# EAGLE library part XCV812E_FG900 (library xilinx-xcv)
xcv812e_fg900 edit this description Auto generated by make-symbol-device-package-bsdl.ulp Rev. 26 Source: xcv812e_fg900.bsd
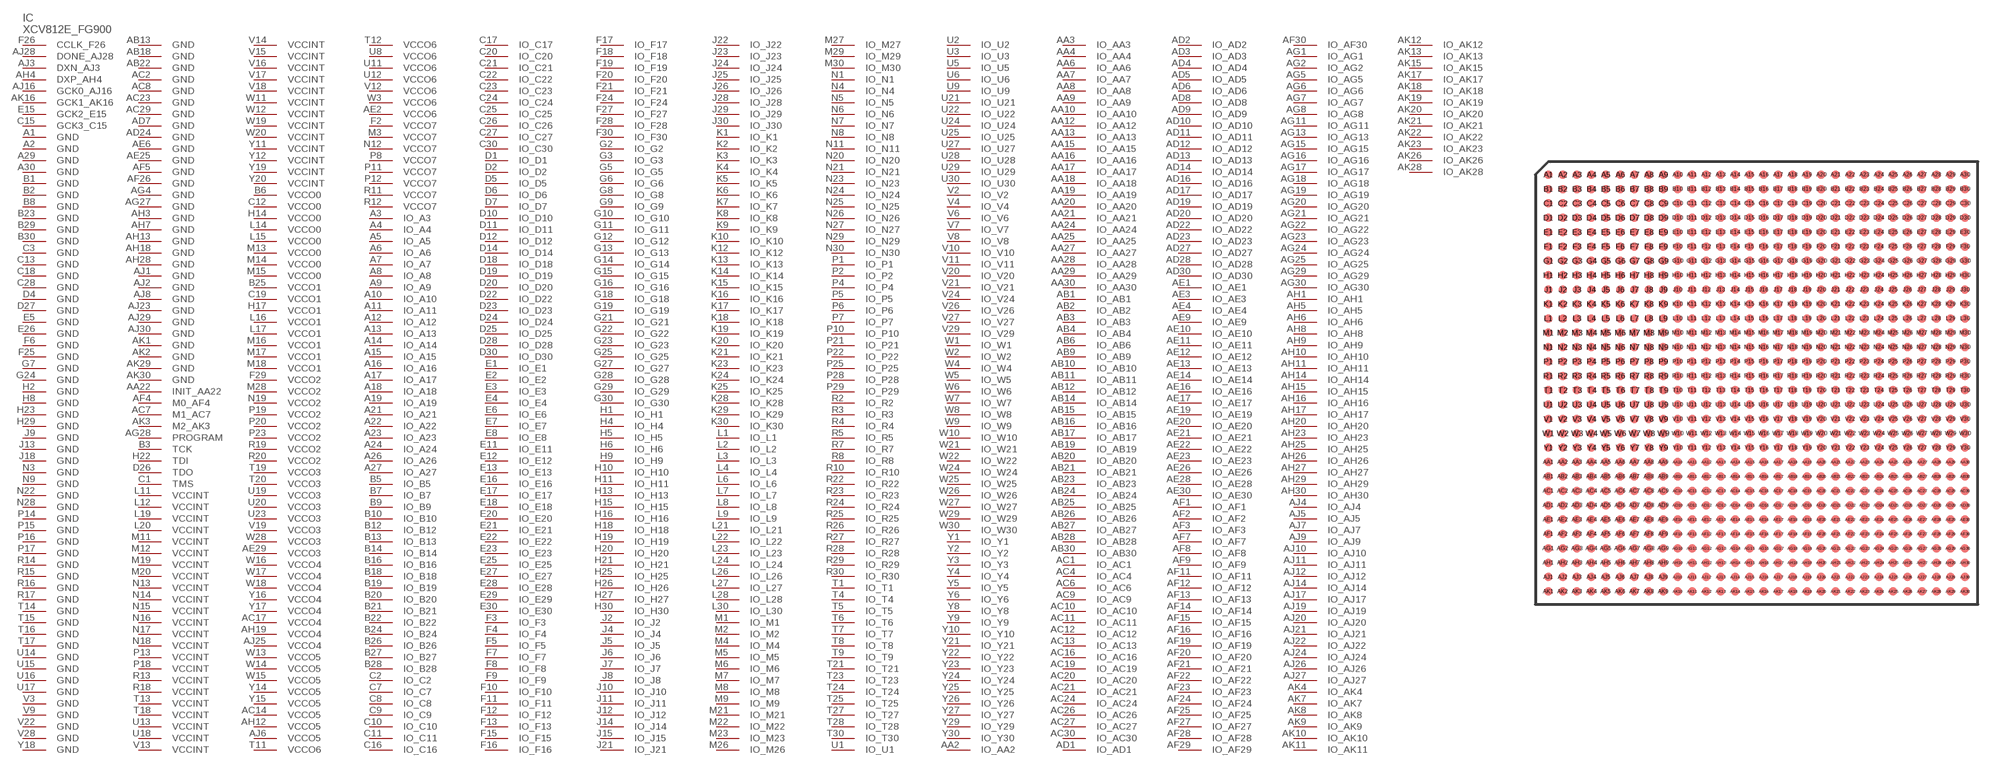
[diagram p138: symbol with the pads of FG900; footprint FG900]

Designator prefix IC

## XCV812E_FG900 (OC_FARNELL: unknown; OC_NEWARK: unknown)  [FG900]
A1  GND  pwr
A2  GND  pwr
A3  IO_A3
A4  IO_A4
A5  IO_A5
A6  IO_A6
A7  IO_A7
A8  IO_A8
A9  IO_A9
A10  IO_A10
A11  IO_A11
A12  IO_A12
A13  IO_A13
A14  IO_A14
A15  IO_A15
A16  IO_A16
A17  IO_A17
A18  IO_A18
A19  IO_A19
A21  IO_A21
A22  IO_A22
A23  IO_A23
A24  IO_A24
A26  IO_A26
A27  IO_A27
A29  GND  pwr
A30  GND  pwr
AA2  IO_AA2
AA3  IO_AA3
AA4  IO_AA4
AA6  IO_AA6
AA7  IO_AA7
AA8  IO_AA8
AA9  IO_AA9
AA10  IO_AA10
AA12  IO_AA12
AA13  IO_AA13
AA15  IO_AA15
AA16  IO_AA16
AA17  IO_AA17
AA18  IO_AA18
AA19  IO_AA19
AA20  IO_AA20
AA21  IO_AA21
AA22  INIT_AA22
AA24  IO_AA24
AA25  IO_AA25
AA27  IO_AA27
AA28  IO_AA28
AA29  IO_AA29
AA30  IO_AA30
AB1  IO_AB1
AB2  IO_AB2
AB3  IO_AB3
AB4  IO_AB4
AB6  IO_AB6
AB9  IO_AB9
AB10  IO_AB10
AB11  IO_AB11
AB12  IO_AB12
AB13  GND  pwr
AB14  IO_AB14
AB15  IO_AB15
AB16  IO_AB16
AB17  IO_AB17
AB18  GND  pwr
AB19  IO_AB19
AB20  IO_AB20
AB21  IO_AB21
AB22  GND  pwr
AB23  IO_AB23
AB24  IO_AB24
AB25  IO_AB25
AB26  IO_AB26
AB27  IO_AB27
AB28  IO_AB28
AB30  IO_AB30
AC1  IO_AC1
AC2  GND  pwr
AC4  IO_AC4
AC6  IO_AC6
AC7  M1_AC7  in
AC8  GND  pwr
AC9  IO_AC9
AC10  IO_AC10
AC11  IO_AC11
AC12  IO_AC12
AC13  IO_AC13
AC14  VCCO5  pwr
AC16  IO_AC16
AC17  VCCO4  pwr
AC19  IO_AC19
AC20  IO_AC20
AC21  IO_AC21
AC23  GND  pwr
AC24  IO_AC24
AC26  IO_AC26
AC27  IO_AC27
AC29  GND  pwr
AC30  IO_AC30
AD1  IO_AD1
AD2  IO_AD2
AD3  IO_AD3
AD4  IO_AD4
AD5  IO_AD5
AD6  IO_AD6
AD7  GND  pwr
AD8  IO_AD8
AD9  IO_AD9
AD10  IO_AD10
AD11  IO_AD11
AD12  IO_AD12
AD13  IO_AD13
AD14  IO_AD14
AD16  IO_AD16
AD17  IO_AD17
AD19  IO_AD19
AD20  IO_AD20
AD22  IO_AD22
AD23  IO_AD23
AD24  GND  pwr
AD27  IO_AD27
AD28  IO_AD28
AD30  IO_AD30
AE1  IO_AE1
AE2  VCCO6  pwr
AE3  IO_AE3
AE4  IO_AE4
AE6  GND  pwr
AE9  IO_AE9
AE10  IO_AE10
AE11  IO_AE11
AE12  IO_AE12
AE13  IO_AE13
AE14  IO_AE14
AE16  IO_AE16
AE17  IO_AE17
AE19  IO_AE19
AE20  IO_AE20
AE21  IO_AE21
AE22  IO_AE22
AE23  IO_AE23
AE25  GND  pwr
AE26  IO_AE26
AE28  IO_AE28
AE29  VCCO3  pwr
AE30  IO_AE30
AF1  IO_AF1
AF2  IO_AF2
AF3  IO_AF3
AF4  M0_AF4  in
AF5  GND  pwr
AF7  IO_AF7
AF8  IO_AF8
AF9  IO_AF9
AF11  IO_AF11
AF12  IO_AF12
AF13  IO_AF13
AF14  IO_AF14
AF15  IO_AF15
AF16  IO_AF16
AF19  IO_AF19
AF20  IO_AF20
AF21  IO_AF21
AF22  IO_AF22
AF23  IO_AF23
AF24  IO_AF24
AF25  IO_AF25
AF26  GND  pwr
AF27  IO_AF27
AF28  IO_AF28
AF29  IO_AF29
AF30  IO_AF30
AG1  IO_AG1
AG2  IO_AG2
AG4  GND  pwr
AG5  IO_AG5
AG6  IO_AG6
AG7  IO_AG7
AG8  IO_AG8
AG11  IO_AG11
AG13  IO_AG13
AG15  IO_AG15
AG16  IO_AG16
AG17  IO_AG17
AG18  IO_AG18
AG19  IO_AG19
AG20  IO_AG20
AG21  IO_AG21
AG22  IO_AG22
AG23  IO_AG23
AG24  IO_AG24
AG25  IO_AG25
AG27  GND  pwr
AG28  PROGRAM  in
AG29  IO_AG29
AG30  IO_AG30
AH1  IO_AH1
AH3  GND  pwr
AH4  DXP_AH4  pas
AH5  IO_AH5
AH6  IO_AH6
AH7  GND  pwr
AH8  IO_AH8
AH9  IO_AH9
AH10  IO_AH10
AH11  IO_AH11
AH12  VCCO5  pwr
AH13  GND  pwr
AH14  IO_AH14
AH15  IO_AH15
AH16  IO_AH16
AH17  IO_AH17
AH18  GND  pwr
AH19  VCCO4  pwr
AH20  IO_AH20
AH23  IO_AH23
AH25  IO_AH25
AH26  IO_AH26
AH27  IO_AH27
AH28  GND  pwr
AH29  IO_AH29
AH30  IO_AH30
AJ1  GND  pwr
AJ2  GND  pwr
AJ3  DXN_AJ3  pas
AJ4  IO_AJ4
AJ5  IO_AJ5
AJ6  VCCO5  pwr
AJ7  IO_AJ7
AJ8  GND  pwr
AJ9  IO_AJ9
AJ10  IO_AJ10
AJ11  IO_AJ11
AJ12  IO_AJ12
AJ14  IO_AJ14
AJ16  GCK0_AJ16  in
AJ17  IO_AJ17
AJ19  IO_AJ19
AJ20  IO_AJ20
AJ21  IO_AJ21
AJ22  IO_AJ22
AJ23  GND  pwr
AJ24  IO_AJ24
AJ25  VCCO4  pwr
AJ26  IO_AJ26
AJ27  IO_AJ27
AJ28  DONE_AJ28
AJ29  GND  pwr
AJ30  GND  pwr
AK1  GND  pwr
AK2  GND  pwr
AK3  M2_AK3  in
AK4  IO_AK4
AK7  IO_AK7
AK8  IO_AK8
AK9  IO_AK9
AK10  IO_AK10
AK11  IO_AK11
AK12  IO_AK12
AK13  IO_AK13
AK15  IO_AK15
AK16  GCK1_AK16  in
AK17  IO_AK17
AK18  IO_AK18
AK19  IO_AK19
AK20  IO_AK20
AK21  IO_AK21
AK22  IO_AK22
AK23  IO_AK23
AK26  IO_AK26
AK28  IO_AK28
AK29  GND  pwr
AK30  GND  pwr
B1  GND  pwr
B2  GND  pwr
B3  TCK  in
B5  IO_B5
B6  VCCO0  pwr
B7  IO_B7
B8  GND  pwr
B9  IO_B9
B10  IO_B10
B12  IO_B12
B13  IO_B13
B14  IO_B14
B16  IO_B16
B18  IO_B18
B19  IO_B19
B20  IO_B20
B21  IO_B21
B22  IO_B22
B23  GND  pwr
B24  IO_B24
B25  VCCO1  pwr
B26  IO_B26
B27  IO_B27
B28  IO_B28
B29  GND  pwr
B30  GND  pwr
C1  TMS  in
C2  IO_C2
C3  GND  pwr
C7  IO_C7
C8  IO_C8
C9  IO_C9
C10  IO_C10
C11  IO_C11
C12  VCCO0  pwr
C13  GND  pwr
C15  GCK3_C15  in
C16  IO_C16
C17  IO_C17
C18  GND  pwr
C19  VCCO1  pwr
C20  IO_C20
C21  IO_C21
C22  IO_C22
C23  IO_C23
C24  IO_C24
C25  IO_C25
C26  IO_C26
C27  IO_C27
C28  GND  pwr
C30  IO_C30
D1  IO_D1
D2  IO_D2
D4  GND  pwr
D5  IO_D5
D6  IO_D6
D7  IO_D7
D10  IO_D10
D11  IO_D11
D12  IO_D12
D14  IO_D14
D18  IO_D18
D19  IO_D19
D20  IO_D20
D22  IO_D22
D23  IO_D23
D24  IO_D24
D25  IO_D25
D26  TDO  out
D27  GND  pwr
D28  IO_D28
D30  IO_D30
E1  IO_E1
E2  IO_E2
E3  IO_E3
E4  IO_E4
E5  GND  pwr
E6  IO_E6
E7  IO_E7
E8  IO_E8
E11  IO_E11
E12  IO_E12
E13  IO_E13
E15  GCK2_E15  in
E16  IO_E16
E17  IO_E17
E18  IO_E18
E20  IO_E20
E21  IO_E21
E22  IO_E22
E23  IO_E23
E25  IO_E25
E26  GND  pwr
E27  IO_E27
E28  IO_E28
E29  IO_E29
E30  IO_E30
F2  VCCO7  pwr
F3  IO_F3
F4  IO_F4
F5  IO_F5
F6  GND  pwr
F7  IO_F7
F8  IO_F8
F9  IO_F9
F10  IO_F10
F11  IO_F11
F12  IO_F12
F13  IO_F13
F15  IO_F15
F16  IO_F16
F17  IO_F17
F18  IO_F18
F19  IO_F19
F20  IO_F20
F21  IO_F21
F24  IO_F24
F25  GND  pwr
F26  CCLK_F26
F27  IO_F27
F28  IO_F28
F29  VCCO2  pwr
F30  IO_F30
G2  IO_G2
G3  IO_G3
G5  IO_G5
G6  IO_G6
G7  GND  pwr
G8  IO_G8
G9  IO_G9
G10  IO_G10
G11  IO_G11
G12  IO_G12
G13  IO_G13
G14  IO_G14
G15  IO_G15
G16  IO_G16
G18  IO_G18
G19  IO_G19
G21  IO_G21
G22  IO_G22
G23  IO_G23
G24  GND  pwr
G25  IO_G25
G27  IO_G27
G28  IO_G28
G29  IO_G29
G30  IO_G30
H1  IO_H1
H2  GND  pwr
H4  IO_H4
H5  IO_H5
H6  IO_H6
H8  GND  pwr
H9  IO_H9
H10  IO_H10
H11  IO_H11
H13  IO_H13
H14  VCCO0  pwr
H15  IO_H15
H16  IO_H16
H17  VCCO1  pwr
H18  IO_H18
H19  IO_H19
H20  IO_H20
H21  IO_H21
H22  TDI  in
H23  GND  pwr
H25  IO_H25
H26  IO_H26
H27  IO_H27
H29  GND  pwr
H30  IO_H30
J2  IO_J2
J4  IO_J4
J5  IO_J5
J6  IO_J6
J7  IO_J7
J8  IO_J8
J9  GND  pwr
J10  IO_J10
J11  IO_J11
J12  IO_J12
J13  GND  pwr
J14  IO_J14
J15  IO_J15
J18  GND  pwr
J21  IO_J21
J22  IO_J22
J23  IO_J23
J24  IO_J24
J25  IO_J25
J26  IO_J26
J28  IO_J28
J29  IO_J29
J30  IO_J30
K1  IO_K1
K2  IO_K2
K3  IO_K3
K4  IO_K4
K5  IO_K5
K6  IO_K6
K7  IO_K7
K8  IO_K8
K9  IO_K9
K10  IO_K10
K12  IO_K12
K13  IO_K13
K14  IO_K14
K15  IO_K15
K16  IO_K16
K17  IO_K17
K18  IO_K18
K19  IO_K19
K20  IO_K20
K21  IO_K21
K23  IO_K23
K24  IO_K24
K25  IO_K25
K28  IO_K28
K29  IO_K29
K30  IO_K30
L1  IO_L1
L2  IO_L2
L3  IO_L3
L4  IO_L4
L6  IO_L6
L7  IO_L7
L8  IO_L8
L9  IO_L9
L11  VCCINT  pwr
L12  VCCINT  pwr
L14  VCCO0  pwr
L15  VCCO0  pwr
L16  VCCO1  pwr
L17  VCCO1  pwr
L19  VCCINT  pwr
L20  VCCINT  pwr
L21  IO_L21
L22  IO_L22
L23  IO_L23
L24  IO_L24
L26  IO_L26
L27  IO_L27
L28  IO_L28
L30  IO_L30
M1  IO_M1
M2  IO_M2
M3  VCCO7  pwr
M4  IO_M4
M5  IO_M5
M6  IO_M6
M7  IO_M7
M8  IO_M8
M9  IO_M9
M11  VCCINT  pwr
M12  VCCINT  pwr
M13  VCCO0  pwr
M14  VCCO0  pwr
M15  VCCO0  pwr
M16  VCCO1  pwr
M17  VCCO1  pwr
M18  VCCO1  pwr
M19  VCCINT  pwr
M20  VCCINT  pwr
M21  IO_M21
M22  IO_M22
M23  IO_M23
M26  IO_M26
M27  IO_M27
M28  VCCO2  pwr
M29  IO_M29
M30  IO_M30
N1  IO_N1
N3  GND  pwr
N4  IO_N4
N5  IO_N5
N6  IO_N6
N7  IO_N7
N8  IO_N8
N9  GND  pwr
N11  IO_N11
N12  VCCO7  pwr
N13  VCCINT  pwr
N14  VCCINT  pwr
N15  VCCINT  pwr
N16  VCCINT  pwr
N17  VCCINT  pwr
N18  VCCINT  pwr
N19  VCCO2  pwr
N20  IO_N20
N21  IO_N21
N22  GND  pwr
N23  IO_N23
N24  IO_N24
N25  IO_N25
N26  IO_N26
N27  IO_N27
N28  GND  pwr
N29  IO_N29
N30  IO_N30
P1  IO_P1
P2  IO_P2
P4  IO_P4
P5  IO_P5
P6  IO_P6
P7  IO_P7
P8  VCCO7  pwr
P10  IO_P10
P11  VCCO7  pwr
P12  VCCO7  pwr
P13  VCCINT  pwr
P14  GND  pwr
P15  GND  pwr
P16  GND  pwr
P17  GND  pwr
P18  VCCINT  pwr
P19  VCCO2  pwr
P20  VCCO2  pwr
P21  IO_P21
P22  IO_P22
P23  VCCO2  pwr
P25  IO_P25
P28  IO_P28
P29  IO_P29
R2  IO_R2
R3  IO_R3
R4  IO_R4
R5  IO_R5
R7  IO_R7
R8  IO_R8
R10  IO_R10
R11  VCCO7  pwr
R12  VCCO7  pwr
R13  VCCINT  pwr
R14  GND  pwr
R15  GND  pwr
R16  GND  pwr
R17  GND  pwr
R18  VCCINT  pwr
R19  VCCO2  pwr
R20  VCCO2  pwr
R22  IO_R22
R23  IO_R23
R24  IO_R24
R25  IO_R25
R26  IO_R26
R27  IO_R27
R28  IO_R28
R29  IO_R29
R30  IO_R30
T1  IO_T1
T4  IO_T4
T5  IO_T5
T6  IO_T6
T7  IO_T7
T8  IO_T8
T9  IO_T9
T11  VCCO6  pwr
T12  VCCO6  pwr
T13  VCCINT  pwr
T14  GND  pwr
T15  GND  pwr
T16  GND  pwr
T17  GND  pwr
T18  VCCINT  pwr
T19  VCCO3  pwr
T20  VCCO3  pwr
T21  IO_T21
T23  IO_T23
T24  IO_T24
T25  IO_T25
T27  IO_T27
T28  IO_T28
T30  IO_T30
U1  IO_U1
U2  IO_U2
U3  IO_U3
U5  IO_U5
U6  IO_U6
U8  VCCO6  pwr
U9  IO_U9
U11  VCCO6  pwr
U12  VCCO6  pwr
U13  VCCINT  pwr
U14  GND  pwr
U15  GND  pwr
U16  GND  pwr
U17  GND  pwr
U18  VCCINT  pwr
U19  VCCO3  pwr
U20  VCCO3  pwr
U21  IO_U21
U22  IO_U22
U23  VCCO3  pwr
U24  IO_U24
U25  IO_U25
U27  IO_U27
U28  IO_U28
U29  IO_U29
U30  IO_U30
V2  IO_V2
V3  GND  pwr
V4  IO_V4
V6  IO_V6
V7  IO_V7
V8  IO_V8
V9  GND  pwr
V10  IO_V10
V11  IO_V11
V12  VCCO6  pwr
V13  VCCINT  pwr
V14  VCCINT  pwr
V15  VCCINT  pwr
V16  VCCINT  pwr
V17  VCCINT  pwr
V18  VCCINT  pwr
V19  VCCO3  pwr
V20  IO_V20
V21  IO_V21
V22  GND  pwr
V24  IO_V24
V26  IO_V26
V27  IO_V27
V28  GND  pwr
V29  IO_V29
W1  IO_W1
W2  IO_W2
W3  VCCO6  pwr
W4  IO_W4
W5  IO_W5
W6  IO_W6
W7  IO_W7
W8  IO_W8
W9  IO_W9
W10  IO_W10
W11  VCCINT  pwr
W12  VCCINT  pwr
W13  VCCO5  pwr
W14  VCCO5  pwr
W15  VCCO5  pwr
W16  VCCO4  pwr
W17  VCCO4  pwr
W18  VCCO4  pwr
W19  VCCINT  pwr
W20  VCCINT  pwr
W21  IO_W21
W22  IO_W22
W24  IO_W24
W25  IO_W25
W26  IO_W26
W27  IO_W27
W28  VCCO3  pwr
W29  IO_W29
W30  IO_W30
Y1  IO_Y1
Y2  IO_Y2
Y3  IO_Y3
Y4  IO_Y4
Y5  IO_Y5
Y6  IO_Y6
Y8  IO_Y8
Y9  IO_Y9
Y10  IO_Y10
Y11  VCCINT  pwr
Y12  VCCINT  pwr
Y14  VCCO5  pwr
Y15  VCCO5  pwr
Y16  VCCO4  pwr
Y17  VCCO4  pwr
Y18  GND  pwr
Y19  VCCINT  pwr
Y20  VCCINT  pwr
Y21  IO_Y21
Y22  IO_Y22
Y23  IO_Y23
Y24  IO_Y24
Y25  IO_Y25
Y26  IO_Y26
Y27  IO_Y27
Y29  IO_Y29
Y30  IO_Y30

## Footprint FG900 (pad centres in mm)
xcv1000e_fg900_1532 edit this description Auto generated by make-symbol-device-package-bsdl.ulp Rev. 26 Source: xcv1000e_fg900_1532.bsd
smd 0.6 x 0.6: A1 -14.5,14.5; A2 -13.5,14.5; A3 -12.5,14.5; A4 -11.5,14.5; A5 -10.5,14.5; A6 -9.5,14.5; A7 -8.5,14.5; A8 -7.5,14.5; A9 -6.5,14.5; A10 -5.5,14.5; A11 -4.5,14.5; A12 -3.5,14.5; A13 -2.5,14.5; A14 -1.5,14.5; A15 -0.5,14.5; A16 0.5,14.5; A17 1.5,14.5; A18 2.5,14.5; A19 3.5,14.5; A20 4.5,14.5; A21 5.5,14.5; A22 6.5,14.5; A23 7.5,14.5; A24 8.5,14.5; A25 9.5,14.5; A26 10.5,14.5; A27 11.5,14.5; A28 12.5,14.5; A29 13.5,14.5; A30 14.5,14.5; AA1 -14.5,-5.5; AA2 -13.5,-5.5; AA3 -12.5,-5.5; AA4 -11.5,-5.5; AA5 -10.5,-5.5; AA6 -9.5,-5.5; AA7 -8.5,-5.5; AA8 -7.5,-5.5; AA9 -6.5,-5.5; AA10 -5.5,-5.5; AA11 -4.5,-5.5; AA12 -3.5,-5.5; AA13 -2.5,-5.5; AA14 -1.5,-5.5; AA15 -0.5,-5.5; AA16 0.5,-5.5; AA17 1.5,-5.5; AA18 2.5,-5.5; AA19 3.5,-5.5; AA20 4.5,-5.5; AA21 5.5,-5.5; AA22 6.5,-5.5; AA23 7.5,-5.5; AA24 8.5,-5.5; AA25 9.5,-5.5; AA26 10.5,-5.5; AA27 11.5,-5.5; AA28 12.5,-5.5; AA29 13.5,-5.5; AA30 14.5,-5.5; AB1 -14.5,-6.5; AB2 -13.5,-6.5; AB3 -12.5,-6.5; AB4 -11.5,-6.5; AB5 -10.5,-6.5; AB6 -9.5,-6.5; AB7 -8.5,-6.5; AB8 -7.5,-6.5; AB9 -6.5,-6.5; AB10 -5.5,-6.5; AB11 -4.5,-6.5; AB12 -3.5,-6.5; AB13 -2.5,-6.5; AB14 -1.5,-6.5; AB15 -0.5,-6.5; AB16 0.5,-6.5; AB17 1.5,-6.5; AB18 2.5,-6.5; AB19 3.5,-6.5; AB20 4.5,-6.5; AB21 5.5,-6.5; AB22 6.5,-6.5; AB23 7.5,-6.5; AB24 8.5,-6.5; AB25 9.5,-6.5; AB26 10.5,-6.5; AB27 11.5,-6.5; AB28 12.5,-6.5; AB29 13.5,-6.5; AB30 14.5,-6.5; AC1 -14.5,-7.5; AC2 -13.5,-7.5; AC3 -12.5,-7.5; AC4 -11.5,-7.5; AC5 -10.5,-7.5; AC6 -9.5,-7.5; AC7 -8.5,-7.5; AC8 -7.5,-7.5; AC9 -6.5,-7.5; AC10 -5.5,-7.5; AC11 -4.5,-7.5; AC12 -3.5,-7.5; AC13 -2.5,-7.5; AC14 -1.5,-7.5; AC15 -0.5,-7.5; AC16 0.5,-7.5; AC17 1.5,-7.5; AC18 2.5,-7.5; AC19 3.5,-7.5; AC20 4.5,-7.5; AC21 5.5,-7.5; AC22 6.5,-7.5; AC23 7.5,-7.5; AC24 8.5,-7.5; AC25 9.5,-7.5; AC26 10.5,-7.5; AC27 11.5,-7.5; AC28 12.5,-7.5; AC29 13.5,-7.5; AC30 14.5,-7.5; AD1 -14.5,-8.5; AD2 -13.5,-8.5; AD3 -12.5,-8.5; AD4 -11.5,-8.5; AD5 -10.5,-8.5; AD6 -9.5,-8.5; AD7 -8.5,-8.5; AD8 -7.5,-8.5; AD9 -6.5,-8.5; AD10 -5.5,-8.5; AD11 -4.5,-8.5; AD12 -3.5,-8.5; AD13 -2.5,-8.5; AD14 -1.5,-8.5; AD15 -0.5,-8.5; AD16 0.5,-8.5; AD17 1.5,-8.5; AD18 2.5,-8.5; AD19 3.5,-8.5; AD20 4.5,-8.5; AD21 5.5,-8.5; AD22 6.5,-8.5; AD23 7.5,-8.5; AD24 8.5,-8.5; AD25 9.5,-8.5; AD26 10.5,-8.5; AD27 11.5,-8.5; AD28 12.5,-8.5; AD29 13.5,-8.5; AD30 14.5,-8.5; AE1 -14.5,-9.5; AE2 -13.5,-9.5; AE3 -12.5,-9.5; AE4 -11.5,-9.5; AE5 -10.5,-9.5; AE6 -9.5,-9.5; AE7 -8.5,-9.5; AE8 -7.5,-9.5; AE9 -6.5,-9.5; AE10 -5.5,-9.5; AE11 -4.5,-9.5; AE12 -3.5,-9.5; AE13 -2.5,-9.5; AE14 -1.5,-9.5; AE15 -0.5,-9.5; AE16 0.5,-9.5; AE17 1.5,-9.5; AE18 2.5,-9.5; AE19 3.5,-9.5; AE20 4.5,-9.5; AE21 5.5,-9.5; AE22 6.5,-9.5; AE23 7.5,-9.5; AE24 8.5,-9.5; AE25 9.5,-9.5; AE26 10.5,-9.5; AE27 11.5,-9.5; AE28 12.5,-9.5; AE29 13.5,-9.5; AE30 14.5,-9.5; AF1 -14.5,-10.5; AF2 -13.5,-10.5; AF3 -12.5,-10.5; AF4 -11.5,-10.5; AF5 -10.5,-10.5; AF6 -9.5,-10.5; AF7 -8.5,-10.5; AF8 -7.5,-10.5; AF9 -6.5,-10.5; AF10 -5.5,-10.5; AF11 -4.5,-10.5; AF12 -3.5,-10.5; AF13 -2.5,-10.5; AF14 -1.5,-10.5; AF15 -0.5,-10.5; AF16 0.5,-10.5; AF17 1.5,-10.5; AF18 2.5,-10.5; AF19 3.5,-10.5; AF20 4.5,-10.5; AF21 5.5,-10.5; AF22 6.5,-10.5; AF23 7.5,-10.5; AF24 8.5,-10.5; AF25 9.5,-10.5; AF26 10.5,-10.5; AF27 11.5,-10.5; AF28 12.5,-10.5; AF29 13.5,-10.5; AF30 14.5,-10.5; AG1 -14.5,-11.5; AG2 -13.5,-11.5; AG3 -12.5,-11.5; AG4 -11.5,-11.5; AG5 -10.5,-11.5; AG6 -9.5,-11.5; AG7 -8.5,-11.5; AG8 -7.5,-11.5; AG9 -6.5,-11.5; AG10 -5.5,-11.5; AG11 -4.5,-11.5; AG12 -3.5,-11.5; AG13 -2.5,-11.5; AG14 -1.5,-11.5; AG15 -0.5,-11.5; AG16 0.5,-11.5; AG17 1.5,-11.5; AG18 2.5,-11.5; AG19 3.5,-11.5; AG20 4.5,-11.5; AG21 5.5,-11.5; AG22 6.5,-11.5; AG23 7.5,-11.5; AG24 8.5,-11.5; AG25 9.5,-11.5; AG26 10.5,-11.5; AG27 11.5,-11.5; AG28 12.5,-11.5; AG29 13.5,-11.5; AG30 14.5,-11.5; AH1 -14.5,-12.5; AH2 -13.5,-12.5; AH3 -12.5,-12.5; AH4 -11.5,-12.5; AH5 -10.5,-12.5; AH6 -9.5,-12.5; AH7 -8.5,-12.5; AH8 -7.5,-12.5; AH9 -6.5,-12.5; AH10 -5.5,-12.5; AH11 -4.5,-12.5; AH12 -3.5,-12.5; AH13 -2.5,-12.5; AH14 -1.5,-12.5; AH15 -0.5,-12.5; AH16 0.5,-12.5; AH17 1.5,-12.5; AH18 2.5,-12.5; AH19 3.5,-12.5; AH20 4.5,-12.5; AH21 5.5,-12.5; AH22 6.5,-12.5; AH23 7.5,-12.5; AH24 8.5,-12.5; AH25 9.5,-12.5; AH26 10.5,-12.5; AH27 11.5,-12.5; AH28 12.5,-12.5; AH29 13.5,-12.5; AH30 14.5,-12.5; AJ1 -14.5,-13.5; AJ2 -13.5,-13.5; AJ3 -12.5,-13.5; AJ4 -11.5,-13.5; AJ5 -10.5,-13.5; AJ6 -9.5,-13.5; AJ7 -8.5,-13.5; AJ8 -7.5,-13.5; AJ9 -6.5,-13.5; AJ10 -5.5,-13.5; AJ11 -4.5,-13.5; AJ12 -3.5,-13.5; AJ13 -2.5,-13.5; AJ14 -1.5,-13.5; AJ15 -0.5,-13.5; AJ16 0.5,-13.5; AJ17 1.5,-13.5; AJ18 2.5,-13.5; AJ19 3.5,-13.5; AJ20 4.5,-13.5; AJ21 5.5,-13.5; AJ22 6.5,-13.5; AJ23 7.5,-13.5; AJ24 8.5,-13.5; AJ25 9.5,-13.5; AJ26 10.5,-13.5; AJ27 11.5,-13.5; AJ28 12.5,-13.5; AJ29 13.5,-13.5; AJ30 14.5,-13.5; AK1 -14.5,-14.5; AK2 -13.5,-14.5; AK3 -12.5,-14.5; AK4 -11.5,-14.5; AK5 -10.5,-14.5; AK6 -9.5,-14.5; AK7 -8.5,-14.5; AK8 -7.5,-14.5; AK9 -6.5,-14.5; AK10 -5.5,-14.5; AK11 -4.5,-14.5; AK12 -3.5,-14.5; AK13 -2.5,-14.5; AK14 -1.5,-14.5; AK15 -0.5,-14.5; AK16 0.5,-14.5; AK17 1.5,-14.5; AK18 2.5,-14.5; AK19 3.5,-14.5; AK20 4.5,-14.5; AK21 5.5,-14.5; AK22 6.5,-14.5; AK23 7.5,-14.5; AK24 8.5,-14.5; AK25 9.5,-14.5; AK26 10.5,-14.5; AK27 11.5,-14.5; AK28 12.5,-14.5; AK29 13.5,-14.5; AK30 14.5,-14.5; B1 -14.5,13.5; B2 -13.5,13.5; B3 -12.5,13.5; B4 -11.5,13.5; B5 -10.5,13.5; B6 -9.5,13.5; B7 -8.5,13.5; B8 -7.5,13.5; B9 -6.5,13.5; B10 -5.5,13.5; B11 -4.5,13.5; B12 -3.5,13.5; B13 -2.5,13.5; B14 -1.5,13.5; B15 -0.5,13.5; B16 0.5,13.5; B17 1.5,13.5; B18 2.5,13.5; B19 3.5,13.5; B20 4.5,13.5; B21 5.5,13.5; B22 6.5,13.5; B23 7.5,13.5; B24 8.5,13.5; B25 9.5,13.5; B26 10.5,13.5; B27 11.5,13.5; B28 12.5,13.5; B29 13.5,13.5; B30 14.5,13.5; C1 -14.5,12.5; C2 -13.5,12.5; C3 -12.5,12.5; C4 -11.5,12.5; C5 -10.5,12.5; C6 -9.5,12.5; C7 -8.5,12.5; C8 -7.5,12.5; C9 -6.5,12.5; C10 -5.5,12.5; C11 -4.5,12.5; C12 -3.5,12.5; C13 -2.5,12.5; C14 -1.5,12.5; C15 -0.5,12.5; C16 0.5,12.5; C17 1.5,12.5; C18 2.5,12.5; C19 3.5,12.5; C20 4.5,12.5; C21 5.5,12.5; C22 6.5,12.5; C23 7.5,12.5; C24 8.5,12.5; C25 9.5,12.5; C26 10.5,12.5; C27 11.5,12.5; C28 12.5,12.5; C29 13.5,12.5; C30 14.5,12.5; D1 -14.5,11.5; D2 -13.5,11.5; D3 -12.5,11.5; D4 -11.5,11.5; D5 -10.5,11.5; D6 -9.5,11.5; D7 -8.5,11.5; D8 -7.5,11.5; D9 -6.5,11.5; D10 -5.5,11.5; D11 -4.5,11.5; D12 -3.5,11.5; D13 -2.5,11.5; D14 -1.5,11.5; D15 -0.5,11.5; D16 0.5,11.5; D17 1.5,11.5; D18 2.5,11.5; D19 3.5,11.5; D20 4.5,11.5; D21 5.5,11.5; D22 6.5,11.5; D23 7.5,11.5; D24 8.5,11.5; D25 9.5,11.5; D26 10.5,11.5; D27 11.5,11.5; D28 12.5,11.5; D29 13.5,11.5; D30 14.5,11.5; E1 -14.5,10.5; E2 -13.5,10.5; E3 -12.5,10.5; E4 -11.5,10.5; E5 -10.5,10.5; E6 -9.5,10.5; E7 -8.5,10.5; E8 -7.5,10.5; E9 -6.5,10.5; E10 -5.5,10.5; E11 -4.5,10.5; E12 -3.5,10.5; E13 -2.5,10.5; E14 -1.5,10.5; E15 -0.5,10.5; E16 0.5,10.5; E17 1.5,10.5; E18 2.5,10.5; E19 3.5,10.5; E20 4.5,10.5; E21 5.5,10.5; E22 6.5,10.5; E23 7.5,10.5; E24 8.5,10.5; E25 9.5,10.5; E26 10.5,10.5; E27 11.5,10.5; E28 12.5,10.5; E29 13.5,10.5; E30 14.5,10.5; F1 -14.5,9.5; F2 -13.5,9.5; F3 -12.5,9.5; F4 -11.5,9.5; F5 -10.5,9.5; F6 -9.5,9.5; F7 -8.5,9.5; F8 -7.5,9.5; F9 -6.5,9.5; F10 -5.5,9.5; F11 -4.5,9.5; F12 -3.5,9.5; F13 -2.5,9.5; F14 -1.5,9.5; F15 -0.5,9.5; F16 0.5,9.5; F17 1.5,9.5; F18 2.5,9.5; F19 3.5,9.5; F20 4.5,9.5; F21 5.5,9.5; F22 6.5,9.5; F23 7.5,9.5; F24 8.5,9.5; F25 9.5,9.5; F26 10.5,9.5; F27 11.5,9.5; F28 12.5,9.5; F29 13.5,9.5; F30 14.5,9.5; G1 -14.5,8.5; G2 -13.5,8.5; G3 -12.5,8.5; G4 -11.5,8.5; G5 -10.5,8.5; G6 -9.5,8.5; G7 -8.5,8.5; G8 -7.5,8.5; G9 -6.5,8.5; G10 -5.5,8.5; G11 -4.5,8.5; G12 -3.5,8.5; G13 -2.5,8.5; G14 -1.5,8.5; G15 -0.5,8.5; G16 0.5,8.5; G17 1.5,8.5; G18 2.5,8.5; G19 3.5,8.5; G20 4.5,8.5; G21 5.5,8.5; G22 6.5,8.5; G23 7.5,8.5; G24 8.5,8.5; G25 9.5,8.5; G26 10.5,8.5; G27 11.5,8.5; G28 12.5,8.5; G29 13.5,8.5; G30 14.5,8.5; H1 -14.5,7.5; H2 -13.5,7.5; H3 -12.5,7.5; H4 -11.5,7.5; H5 -10.5,7.5; H6 -9.5,7.5; H7 -8.5,7.5; H8 -7.5,7.5; H9 -6.5,7.5; H10 -5.5,7.5; H11 -4.5,7.5; H12 -3.5,7.5; H13 -2.5,7.5; H14 -1.5,7.5; H15 -0.5,7.5; H16 0.5,7.5; H17 1.5,7.5; H18 2.5,7.5; H19 3.5,7.5; H20 4.5,7.5; H21 5.5,7.5; H22 6.5,7.5; H23 7.5,7.5; H24 8.5,7.5; H25 9.5,7.5; H26 10.5,7.5; H27 11.5,7.5; H28 12.5,7.5; H29 13.5,7.5; H30 14.5,7.5; J1 -14.5,6.5; J2 -13.5,6.5; J3 -12.5,6.5; J4 -11.5,6.5; J5 -10.5,6.5; J6 -9.5,6.5; J7 -8.5,6.5; J8 -7.5,6.5; J9 -6.5,6.5; J10 -5.5,6.5; J11 -4.5,6.5; J12 -3.5,6.5; J13 -2.5,6.5; J14 -1.5,6.5; J15 -0.5,6.5; J16 0.5,6.5; J17 1.5,6.5; J18 2.5,6.5; J19 3.5,6.5; J20 4.5,6.5; J21 5.5,6.5; J22 6.5,6.5; J23 7.5,6.5; J24 8.5,6.5; J25 9.5,6.5; J26 10.5,6.5; J27 11.5,6.5; J28 12.5,6.5; J29 13.5,6.5; J30 14.5,6.5; K1 -14.5,5.5; K2 -13.5,5.5; K3 -12.5,5.5; K4 -11.5,5.5; K5 -10.5,5.5; K6 -9.5,5.5; K7 -8.5,5.5; K8 -7.5,5.5; K9 -6.5,5.5; K10 -5.5,5.5; K11 -4.5,5.5; K12 -3.5,5.5; K13 -2.5,5.5; K14 -1.5,5.5; K15 -0.5,5.5; K16 0.5,5.5; K17 1.5,5.5; K18 2.5,5.5; K19 3.5,5.5; K20 4.5,5.5; K21 5.5,5.5; K22 6.5,5.5; K23 7.5,5.5; K24 8.5,5.5; K25 9.5,5.5; K26 10.5,5.5; K27 11.5,5.5; K28 12.5,5.5; K29 13.5,5.5; K30 14.5,5.5; L1 -14.5,4.5; L2 -13.5,4.5; L3 -12.5,4.5; L4 -11.5,4.5; L5 -10.5,4.5; L6 -9.5,4.5; L7 -8.5,4.5; L8 -7.5,4.5; L9 -6.5,4.5; L10 -5.5,4.5; L11 -4.5,4.5; L12 -3.5,4.5; L13 -2.5,4.5; L14 -1.5,4.5; L15 -0.5,4.5; L16 0.5,4.5; L17 1.5,4.5; L18 2.5,4.5; L19 3.5,4.5; L20 4.5,4.5; L21 5.5,4.5; L22 6.5,4.5; L23 7.5,4.5; L24 8.5,4.5; L25 9.5,4.5; L26 10.5,4.5; L27 11.5,4.5; L28 12.5,4.5; L29 13.5,4.5; L30 14.5,4.5; M1 -14.5,3.5; M2 -13.5,3.5; M3 -12.5,3.5; M4 -11.5,3.5; M5 -10.5,3.5; M6 -9.5,3.5; M7 -8.5,3.5; M8 -7.5,3.5; M9 -6.5,3.5; M10 -5.5,3.5; M11 -4.5,3.5; M12 -3.5,3.5; M13 -2.5,3.5; M14 -1.5,3.5; M15 -0.5,3.5; M16 0.5,3.5; M17 1.5,3.5; M18 2.5,3.5; M19 3.5,3.5; M20 4.5,3.5; M21 5.5,3.5; M22 6.5,3.5; M23 7.5,3.5; M24 8.5,3.5; M25 9.5,3.5; M26 10.5,3.5; M27 11.5,3.5; M28 12.5,3.5; M29 13.5,3.5; M30 14.5,3.5; N1 -14.5,2.5; N2 -13.5,2.5; N3 -12.5,2.5; N4 -11.5,2.5; N5 -10.5,2.5; N6 -9.5,2.5; N7 -8.5,2.5; N8 -7.5,2.5; N9 -6.5,2.5; N10 -5.5,2.5; N11 -4.5,2.5; N12 -3.5,2.5; N13 -2.5,2.5; N14 -1.5,2.5; N15 -0.5,2.5; N16 0.5,2.5; N17 1.5,2.5; N18 2.5,2.5; N19 3.5,2.5; N20 4.5,2.5; N21 5.5,2.5; N22 6.5,2.5; N23 7.5,2.5; N24 8.5,2.5; N25 9.5,2.5; N26 10.5,2.5; N27 11.5,2.5; N28 12.5,2.5; N29 13.5,2.5; N30 14.5,2.5; P1 -14.5,1.5; P2 -13.5,1.5; P3 -12.5,1.5; P4 -11.5,1.5; P5 -10.5,1.5; P6 -9.5,1.5; P7 -8.5,1.5; P8 -7.5,1.5; P9 -6.5,1.5; P10 -5.5,1.5; P11 -4.5,1.5; P12 -3.5,1.5; P13 -2.5,1.5; P14 -1.5,1.5; P15 -0.5,1.5; P16 0.5,1.5; P17 1.5,1.5; P18 2.5,1.5; P19 3.5,1.5; P20 4.5,1.5; P21 5.5,1.5; P22 6.5,1.5; P23 7.5,1.5; P24 8.5,1.5; P25 9.5,1.5; P26 10.5,1.5; P27 11.5,1.5; P28 12.5,1.5; P29 13.5,1.5; P30 14.5,1.5; R1 -14.5,0.5; R2 -13.5,0.5; R3 -12.5,0.5; R4 -11.5,0.5; R5 -10.5,0.5; R6 -9.5,0.5; R7 -8.5,0.5; R8 -7.5,0.5; R9 -6.5,0.5; R10 -5.5,0.5; R11 -4.5,0.5; R12 -3.5,0.5; R13 -2.5,0.5; R14 -1.5,0.5; R15 -0.5,0.5; R16 0.5,0.5; R17 1.5,0.5; R18 2.5,0.5; R19 3.5,0.5; R20 4.5,0.5; R21 5.5,0.5; R22 6.5,0.5; R23 7.5,0.5; R24 8.5,0.5; R25 9.5,0.5; R26 10.5,0.5; R27 11.5,0.5; R28 12.5,0.5; R29 13.5,0.5; R30 14.5,0.5; T1 -14.5,-0.5; T2 -13.5,-0.5; T3 -12.5,-0.5; T4 -11.5,-0.5; T5 -10.5,-0.5; T6 -9.5,-0.5; T7 -8.5,-0.5; T8 -7.5,-0.5; T9 -6.5,-0.5; T10 -5.5,-0.5; T11 -4.5,-0.5; T12 -3.5,-0.5; T13 -2.5,-0.5; T14 -1.5,-0.5; T15 -0.5,-0.5; T16 0.5,-0.5; T17 1.5,-0.5; T18 2.5,-0.5; T19 3.5,-0.5; T20 4.5,-0.5; T21 5.5,-0.5; T22 6.5,-0.5; T23 7.5,-0.5; T24 8.5,-0.5; T25 9.5,-0.5; T26 10.5,-0.5; T27 11.5,-0.5; T28 12.5,-0.5; T29 13.5,-0.5; T30 14.5,-0.5; U1 -14.5,-1.5; U2 -13.5,-1.5; U3 -12.5,-1.5; U4 -11.5,-1.5; U5 -10.5,-1.5; U6 -9.5,-1.5; U7 -8.5,-1.5; U8 -7.5,-1.5; U9 -6.5,-1.5; U10 -5.5,-1.5; U11 -4.5,-1.5; U12 -3.5,-1.5; U13 -2.5,-1.5; U14 -1.5,-1.5; U15 -0.5,-1.5; U16 0.5,-1.5; U17 1.5,-1.5; U18 2.5,-1.5; U19 3.5,-1.5; U20 4.5,-1.5; U21 5.5,-1.5; U22 6.5,-1.5; U23 7.5,-1.5; U24 8.5,-1.5; U25 9.5,-1.5; U26 10.5,-1.5; U27 11.5,-1.5; U28 12.5,-1.5; U29 13.5,-1.5; U30 14.5,-1.5; V1 -14.5,-2.5; V2 -13.5,-2.5; V3 -12.5,-2.5; V4 -11.5,-2.5; V5 -10.5,-2.5; V6 -9.5,-2.5; V7 -8.5,-2.5; V8 -7.5,-2.5; V9 -6.5,-2.5; V10 -5.5,-2.5; V11 -4.5,-2.5; V12 -3.5,-2.5; V13 -2.5,-2.5; V14 -1.5,-2.5; V15 -0.5,-2.5; V16 0.5,-2.5; V17 1.5,-2.5; V18 2.5,-2.5; V19 3.5,-2.5; V20 4.5,-2.5; V21 5.5,-2.5; V22 6.5,-2.5; V23 7.5,-2.5; V24 8.5,-2.5; V25 9.5,-2.5; V26 10.5,-2.5; V27 11.5,-2.5; V28 12.5,-2.5; V29 13.5,-2.5; V30 14.5,-2.5; W1 -14.5,-3.5; W2 -13.5,-3.5; W3 -12.5,-3.5; W4 -11.5,-3.5; W5 -10.5,-3.5; W6 -9.5,-3.5; W7 -8.5,-3.5; W8 -7.5,-3.5; W9 -6.5,-3.5; W10 -5.5,-3.5; W11 -4.5,-3.5; W12 -3.5,-3.5; W13 -2.5,-3.5; W14 -1.5,-3.5; W15 -0.5,-3.5; W16 0.5,-3.5; W17 1.5,-3.5; W18 2.5,-3.5; W19 3.5,-3.5; W20 4.5,-3.5; W21 5.5,-3.5; W22 6.5,-3.5; W23 7.5,-3.5; W24 8.5,-3.5; W25 9.5,-3.5; W26 10.5,-3.5; W27 11.5,-3.5; W28 12.5,-3.5; W29 13.5,-3.5; W30 14.5,-3.5; Y1 -14.5,-4.5; Y2 -13.5,-4.5; Y3 -12.5,-4.5; Y4 -11.5,-4.5; Y5 -10.5,-4.5; Y6 -9.5,-4.5; Y7 -8.5,-4.5; Y8 -7.5,-4.5; Y9 -6.5,-4.5; Y10 -5.5,-4.5; Y11 -4.5,-4.5; Y12 -3.5,-4.5; Y13 -2.5,-4.5; Y14 -1.5,-4.5; Y15 -0.5,-4.5; Y16 0.5,-4.5; Y17 1.5,-4.5; Y18 2.5,-4.5; Y19 3.5,-4.5; Y20 4.5,-4.5; Y21 5.5,-4.5; Y22 6.5,-4.5; Y23 7.5,-4.5; Y24 8.5,-4.5; Y25 9.5,-4.5; Y26 10.5,-4.5; Y27 11.5,-4.5; Y28 12.5,-4.5; Y29 13.5,-4.5; Y30 14.5,-4.5